# Altium schematic symbol library Components - 26.01.22 - 20.55.SchLib: 1 symbol
Pins are listed as number, name and electrical type; pins without a type are passive.

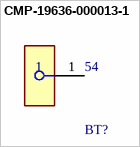
[diagram p0: symbol CMP-19636-000013-1]

## CMP-19636-000013-1
designator BT?, comment 54
BATTERY CONTACT CLP 18650 PC PIN; Lead Free: Lead Free
footprint FP-54-MFG
pins: 1 (power)